# EAGLE library part JS202011SCQN (library senseye)
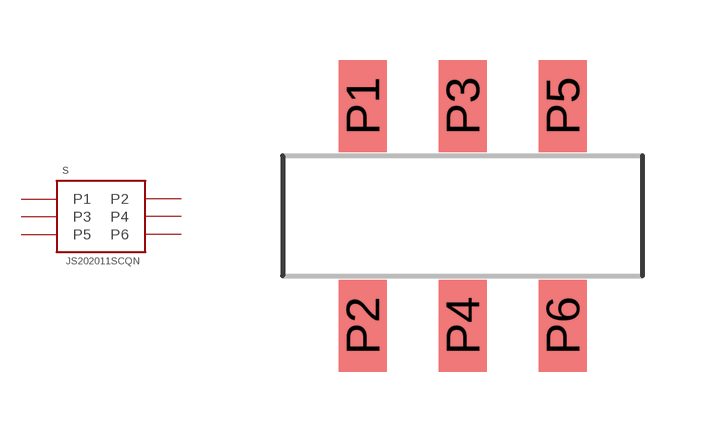
[diagram p1: symbol with the pads of JS2020_6PIN_SMT; footprint JS2020_6PIN_SMT]

Designator prefix S

## JS202011SCQN  [JS2020_6PIN_SMT]
P1  P1
P2  P2
P3  P3
P4  P4
P5  P5
P6  P6

## Footprint JS2020_6PIN_SMT (pad centres in mm)
smd 1.2 x 2.3: P1 -2.5,1.25; P2 -2.5,-4.25; P3 0,1.25; P4 0,-4.25; P5 2.5,1.25; P6 2.5,-4.25